# Altium footprint library KLS1-TF-003.PcbLib: 1 footprints
Each footprint in its own frame and in the unit in brackets; x right, y up, seen from the top. Pads: shape width x height; smd on the part's side, far side on the other; paste and mask are expansions set on the pad; w line width, h text height; cw(c..) or ccw(c..) is an arc to the next point about the centre after c.
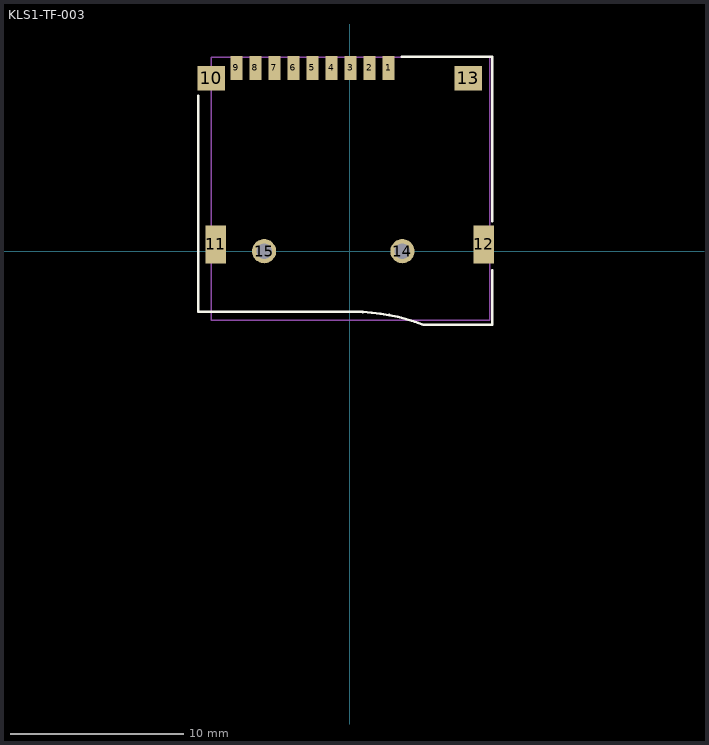
[diagram p0: the footprint, top view; thin cyan lines are the x and y axes]

## KLS1-TF-003 [mm]
pads (15):
  rect 0.7x1.4 smd: 1(2.25,10.6) 2(1.15,10.6) 3(0.05,10.6) 4(-1.05,10.6) 5(-2.15,10.6) 6(-3.25,10.6) 7(-4.35,10.6) 8(-5.45,10.6) 9(-6.55,10.6)
  rect 1.6x1.4 smd: 10(-8,10) 13(6.85,10)
  rect 1.2x2.2 smd: 11(-7.75,0.4) 12(7.75,0.4)
  round 1.4 hole 0.9: 14(3.05,0) 15(-4.95,0)
Top Overlay:
  lines w0.15: -8.75,9 -8.75,-3.5 0.25,-3.5 cw(c0.25,-14.5) 4.252,-4.254 ; 3.002,11.25 8.25,11.25 8.25,1.75 ; 4.25,-4.259 8.25,-4.247 8.25,-1.104
Assembly:
  lines w0.1: -8.001,-3.99 8.1,-3.99 8.1,11.213 -8.001,11.213 -8.001,-3.99
3D body "L-KLS1-TF-003-H1.85-R.stp": height 1.85, standoff -0.6, extent -8,-3.99 8.1,11.213